# Altium footprint library Var Resistors.PcbLib: 4 footprints
Each footprint in its own frame and in the unit in brackets; x right, y up, seen from the top. Pads: shape width x height; smd on the part's side, far side on the other; paste and mask are expansions set on the pad; w line width, h text height; cw(c..) or ccw(c..) is an arc to the next point about the centre after c.
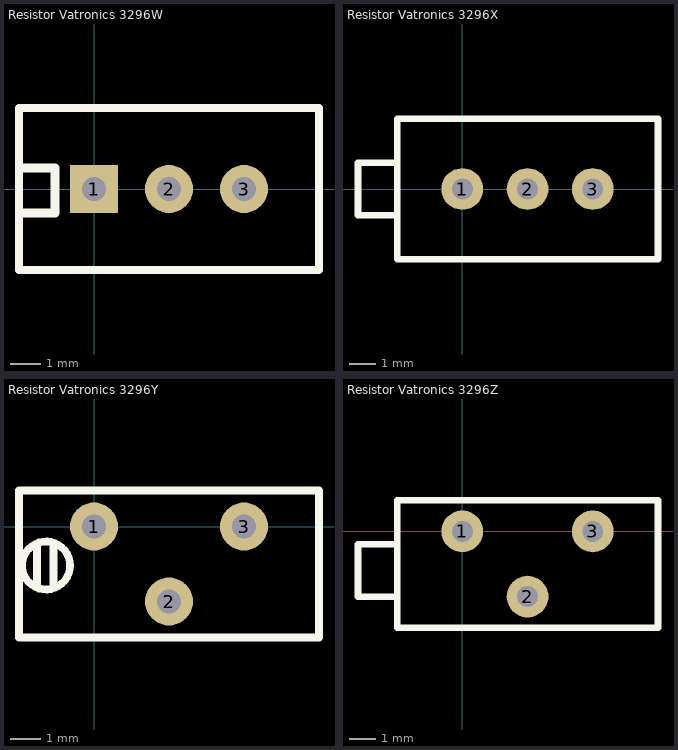
[diagram p0: the footprints below, top view; thin cyan lines are the x and y axes]

## Resistor Vatronics 3296W [mm]
pads (3):
  rect 1.6x1.6 hole 0.8: 1(0,0)
  round 1.6 hole 0.8: 2(2.5,0) 3(5,0)
Top Overlay:
  lines w0.254: -2.5,-2.7 7.5,-2.7 7.5,2.7 -2.5,2.7 -2.5,-2.7
  lines w0.3: -2.4,-0.8 -1.3,-0.8 -1.3,0.7 -2.4,0.7

## Resistor Vatronics 3296X [mm]
pads (3):
  round 1.6 hole 0.8: 1(0,0) 2(2.5,0) 3(5,0)
Top Overlay:
  lines w0.254: -4,-1 -4,1 ; -4,-1 -4,1 ; -4,-1 -2.5,-1 -4,-1 ; -4,-1 -4,1 ; -4,1 -2.5,1 -4,1 ; -2.5,-2.7 -2.5,2.7 7.5,2.7 7.5,-2.7 -2.5,-2.7

## Resistor Vatronics 3296Y [mm]
pads (3):
  round 1.6 hole 0.8: 1(0,0) 2(2.5,-2.5) 3(5,0)
Top Overlay:
  circle w0.254: c-1.6,-1.3 r0.8
  lines w0.254: -2.5,-2.5 -2.5,1 ; -1.9,-2 -1.9,-0.6 ; -1.35,-2 -1.35,-0.55 ; 7.5,-2.5 7.5,1.2 -2.5,1.2 -2.5,-3.7 7.5,-3.7 7.5,1

## Resistor Vatronics 3296Z [mm]
pads (3):
  round 1.6 hole 0.8: 1(0,0) 2(2.5,-2.5) 3(5,0)
Top Overlay:
  lines w0.254: -2.5,1 -2.5,-2.5 ; 7.5,-2.5 7.5,1 ; -4,-2.5 -2.5,-2.5 ; -4,-2.5 -4,-0.5 ; -4,-2.5 -2.5,-2.5 ; -4,-2.5 -4,-0.5 ; -4,-2.5 -4,-0.5 ; -4,-0.5 -2.5,-0.5 -4,-0.5 ; -2.5,-3.7 7.5,-3.7 7.5,1.2 -2.5,1.2 -2.5,-3.7